# EAGLE library part SN74CBT3306DR (library thomas_library)
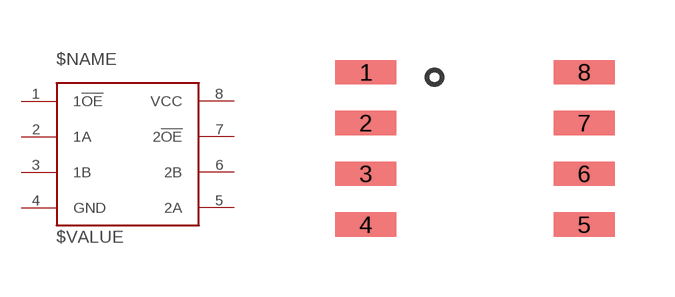
[diagram p23: symbol with the pads of SO_8; footprint SO_8]

Designator prefix -

## SN74CBT3306DR  [SO_8]
1  1!OE
2  1A
3  1B
4  GND
5  2A
6  2B
7  2!OE
8  VCC

## Footprint SO_8 (pad centres in mm)
smd 1.524 x 0.61: 1 -2.731,1.905; 2 -2.731,0.635; 3 -2.731,-0.635; 4 -2.731,-1.905; 5 2.731,-1.905; 6 2.731,-0.635; 7 2.731,0.635; 8 2.731,1.905